# EAGLE library part DISPLAY-CONNECTOR (library ml)
PIN HEADER
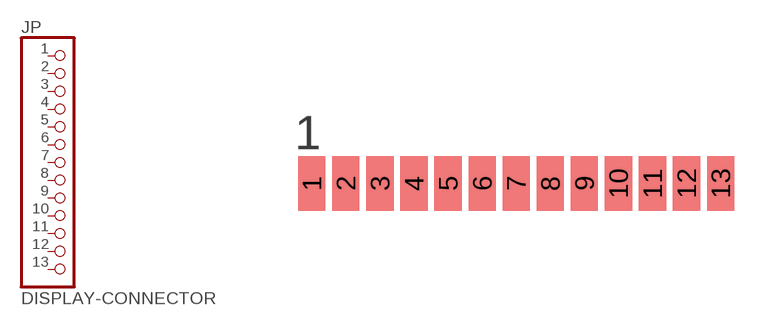
[diagram p1: symbol with the pads of DISPLAY-CONNECTOR; footprint DISPLAY-CONNECTOR]

Designator prefix JP

## DISPLAY-CONNECTOR  [DISPLAY-CONNECTOR]
1  1  pas
2  2  pas
3  3  pas
4  4  pas
5  5  pas
6  6  pas
7  7  pas
8  8  pas
9  9  pas
10  10  pas
11  11  pas
12  12  pas
13  13  pas

## Footprint DISPLAY-CONNECTOR (pad centres in mm)
smd 1.016 x 2.032: 1 -7.62,0; 2 -6.35,0; 3 -5.08,0; 4 -3.81,0; 5 -2.54,0; 6 -1.27,0; 7 0,0; 8 1.27,0; 9 2.54,0; 10 3.81,0; 11 5.08,0; 12 6.35,0; 13 7.62,0